# Altium schematic symbol library UCDFR Misc.SchLib: 16 symbols
Pins are listed as number, name and electrical type; pins without a type are passive.

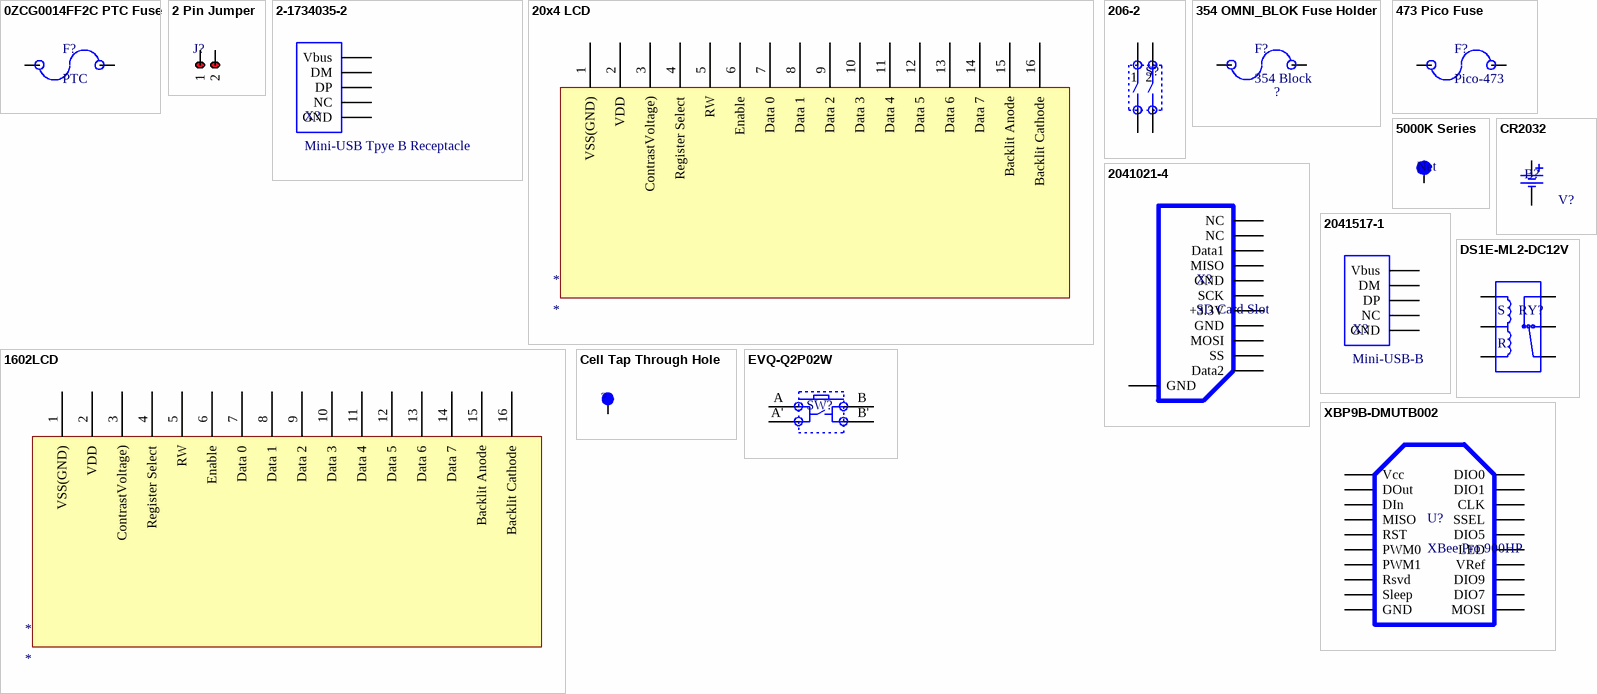
[diagram p0: symbols 0ZCG0014FF2C PTC Fuse to XBP9B-DMUTB002]

## 0ZCG0014FF2C PTC Fuse
designator F?, comment PTC
Bel Fuse Inc, 140mA, 60V, 1812 PTC Fuse; Mfg. PN: 0ZCG0014FF2C; Digi-Key PN: 507-1755-1-ND; Current Hold: 140mA; Voltage Rated: 60V
footprint 1812 PTC Fuse (Bel Fuse 1812 PTC Fuse)
pins: 1, 2

## 2 Pin Jumper
designator J?  (value not drawn)
footprint 2 Pin Jumper
pins: 1, 2

## 2-1734035-2
designator X?, comment Mini-USB Tpye B Receptacle
TE Mini-USB Type B Receptacle, 5-pins; Manufacturer: TE Connectivity; Mfg. PN: 2-1734035-2; Digi-Key PN: A108849CT-ND
footprint 2-1734035-2 (TE Mini-USB Type B Receptacle, 5-pins)
pins: 1 Vbus, 2 DM, 3 DP, 4 NC, 5 GND

## 20x4 LCD
designator *
footprint 20x4 LCD
pins: 1 VSS(GND), 2 VDD, 3 ContrastVoltage), 4 Register Select, 5 RW, 6 Enable, 7 Data 0, 8 Data 1, 9 Data 2, 10 Data 3, 11 Data 4, 12 Data 5, 13 Data 6, 14 Data 7, 15 Backlit Anode, 16 Backlit Cathode

## 206-2
designator S?  (value not drawn)
2-SPST, 50V, 100mA Switch; Manufacturer: CTS Electrocomponents; Digi-Key PN: CT2062-ND; Mfg. PN: 206-2
footprint 206-2 (CTS 2-SPST, Switch)
pins: 1A, 1B, 2A, 2B
text: 1; 2

## 354 OMNI_BLOK Fuse Holder
designator F?, comment 354 Block
LittelFuse 354 OMNI-BLOK, 3AB&3AG Fuse Holder; Mfg. PN: 03540101ZXGY; Max Voltage: 300V; Max Current: 15A; Digi-Key PN: F1498-ND; Fused Net: ?
footprint 354 OMMI-BLOK (LittelFuse 354 Fuse Block)
pins: 1, 2

## 473 Pico Fuse
designator F?, comment Pico-473
Littel-Fuse, 473 Pico Fuse; Rating: 4A
footprint 473 Pico Fuse (LittelFuse, 473 PicoFuse)
pins: 1, 2

## 1602LCD
designator *
footprint 1602LCD
pins: 1 VSS(GND), 2 VDD, 3 ContrastVoltage), 4 Register Select, 5 RW, 6 Enable, 7 Data 0, 8 Data 1, 9 Data 2, 10 Data 3, 11 Data 4, 12 Data 5, 13 Data 6, 14 Data 7, 15 Backlit Anode, 16 Backlit Cathode

## 5000K Series
designator Net
Keystone .04"D Test Point
footprint 5000K Series (Keystone .04"D Test Point)
pins: 1

## 2041021-4
designator X?, comment SD Card Slot
TE SD Card Slot, 11-pin, Push-Pull, SMD; Manufacturer: TE Connectivity; Mfg. PN: 2041021-4; Digi-Key PN: A101492CT-ND
footprint 2041021-4 (TE SD Card Slot, 11-pins)
pins: 1 SS, 2 MOSI, 3 GND, 4 +3.3V, 5 SCK, 6 GND, 7 MISO, 8 Data1, 9 Data2, 10 NC, 11 NC, 12 GND

## 2041517-1
designator X?, comment Mini-USB-B
TE Mini-USB Type B Receptacle, Vertical, 5-pins; Manufacturer: TE Connectivity; Mfg. PN: 2041517-1; Digi-Key PN: A118097CT-ND
footprint 2041517-1 (TE Mini-USB Type B Receptacle, Vertical, 5-pins)
pins: 1 Vbus, 2 DM, 3 DP, 4 NC, 5 GND

## Cell Tap Through Hole
designator ?  (value not drawn)
footprint Cell Tap Through Holes
pins: 1

## CR2032
designator B?, comment Voltage: V?  (hidden comment: Coin Cell Clip)
Panasonic, Coin Cell Clip, CR2032; Mfg. PN: CR2302; Digi-Key PN: P189-ND
footprint 796136-1 (TE CR2032 Battery Holder)
pins: 1 POS, 2 NEG

## DS1E-ML2-DC12V
designator RY?  (value not drawn)
Panasonic, 12V, 2-Coil, Latching Relay; Mfg. PN: DS1E-ML2-DC12V; Manufacturer: Panasonic; Digi-Key PN: 255-1475-ND
footprint DS1E-ML2-DC12V (Panasonic Bistable, 2-Coil Relay)
pins: 1, 3, 6, 7 COM, 10 RST, 12 SET
text: S; R

## EVQ-Q2P02W
designator SW?, comment Switch  (value not drawn)
Panasonic, SPST, SMD; Mfg. PN: EVQ-Q2P02W; Manufacturer: Panasonic; Digi-Key PN: P12948SCT-ND
footprint EVQ-Q2P02W (Panasonic, SPST, SMD Switch)
pins: A 1, A' 2, B 4, B' 3

## XBP9B-DMUTB002
designator U?, comment XBee Pro 900HP
Manufacturer: Digi International; Mfg. PN: XBP9B-DMUTB002
footprint XBP9B-DMUTB002 (XBee Pro 900HP)
pins: 1 Vcc, 2 DOut, 3 DIn, 4 MISO, 5 RST, 6 PWM0, 7 PWM1, 8 Rsvd, 9 Sleep, 10 GND, 11 MOSI, 12 DIO7, 13 DIO9, 14 VRef, 15 LED, 16 DIO5, 17 SSEL, 18 CLK, 19 DIO1, 20 DIO0